# EAGLE library part MA09-2W (library con-lstb-custom)
PIN HEADER
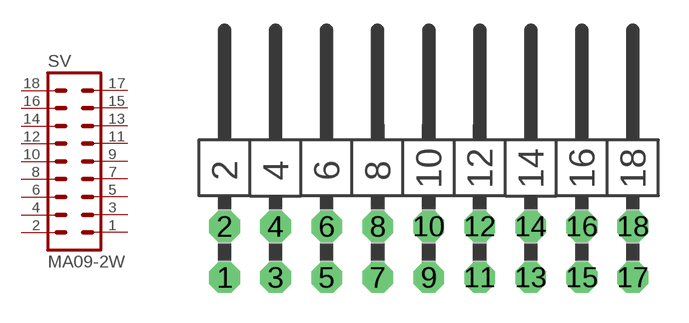
[diagram p31: symbol with the pads of MA09-2W; footprint MA09-2W]

Designator prefix SV

## MA09-2W (OC_FARNELL: unknown; OC_NEWARK: unknown)  [MA09-2W]
1  9_  pas
2  18_  pas
3  8_  pas
4  17_  pas
5  7_  pas
6  16_  pas
7  6_  pas
8  15_  pas
9  5_  pas
10  14_  pas
11  4_  pas
12  13_  pas
13  3_  pas
14  12_  pas
15  2_  pas
16  11_  pas
17  1_  pas
18  10_  pas

## Footprint MA09-2W (pad centres in mm)
PIN HEADER
drill 1.016 octagon: 1 -10.16,-1.27; 2 -10.16,1.27; 3 -7.62,-1.27; 4 -7.62,1.27; 5 -5.08,-1.27; 6 -5.08,1.27; 7 -2.54,-1.27; 8 -2.54,1.27; 9 0,-1.27; 10 0,1.27; 11 2.54,-1.27; 12 2.54,1.27; 13 5.08,-1.27; 14 5.08,1.27; 15 7.62,-1.27; 16 7.62,1.27; 17 10.16,-1.27; 18 10.16,1.27